# Altium schematic symbol library STM32BluePill.SchLib: 1 symbol
Pins are listed as number, name and electrical type; pins without a type are passive.

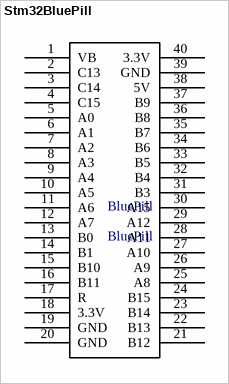
[diagram p0: symbol Stm32BluePill]

## Stm32BluePill
designator BluePill, comment BluePill
Blue Pill Module
footprint stm32 Blue pill (BluePill)
pins: 1 VB (power), 2 C13 (power), 3 C14 (power), 4 C15 (power), 5 A0 (power), 6 A1 (power), 7 A2 (power), 8 A3 (power), 9 A4 (power), 10 A5 (power), 11 A6 (power), 12 A7 (power), 13 B0 (power), 14 B1 (power), 15 B10 (power), 16 B11 (power), 17 R (power), 18 3.3V (power), 19 GND (power), 20 GND (power), 21 B12 (power), 22 B13 (power), 23 B14 (power), 24 B15 (power), 25 A8 (power), 26 A9 (power), 27 A10 (power), 28 A11 (power), 29 A12 (power), 30 A15 (power), 31 B3 (power), 32 B4 (power), 33 B5 (power), 34 B6 (power), 35 B7 (power), 36 B8 (power), 37 B9 (power), 38 5V (power), 39 GND (power), 40 3.3V (power)